# EAGLE library part CAT4008W-T2 (library Catalyst_Semiconductor_By_element14_Batch_1)
LED Driver
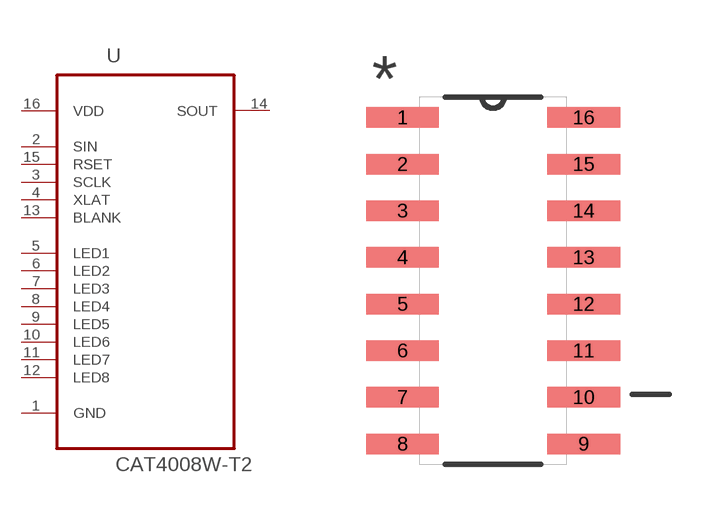
[diagram p29: symbol with the pads of SOIC127P600X175-16N; footprint SOIC127P600X175-16N]

Designator prefix U

## CAT4008W-T2 (MPN: CAT4008W-T2; OC_FARNELL: 1718448; OC_NEWARK: 08R5258; PACKAGE: SOIC-16; SUPPLIER: CATALYST SEMICONDUCTOR)  [SOIC127P600X175-16N]
1  GND  pas
2  SIN  in
3  SCLK  in
4  XLAT  in
5  LED1  in
6  LED2  in
7  LED3  in
8  LED4  in
9  LED5  in
10  LED6  in
11  LED7  in
12  LED8  in
13  BLANK  in
14  SOUT  out
15  RSET  in
16  VDD  pwr

## Footprint SOIC127P600X175-16N (pad centres in mm)
smd 1.981 x 0.559: 1 -2.464,4.445; 2 -2.464,3.175; 3 -2.464,1.905; 4 -2.464,0.635; 5 -2.464,-0.635; 6 -2.464,-1.905; 7 -2.464,-3.175; 8 -2.464,-4.445; 9 2.464,-4.445; 10 2.464,-3.175; 11 2.464,-1.905; 12 2.464,-0.635; 13 2.464,0.635; 14 2.464,1.905; 15 2.464,3.175; 16 2.464,4.445